# Altium schematic symbol library esclib.SchLib: 1 symbol
Pins are listed as number, name and electrical type; pins without a type are passive.

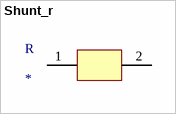
[diagram p0: symbol Shunt_r]

## Shunt_r
designator R
footprint WSLP2726
pins: 1, 2